# EAGLE library part DG3XX-12 (library degson)
DG350-3.5-12P DG306-5.0-12P
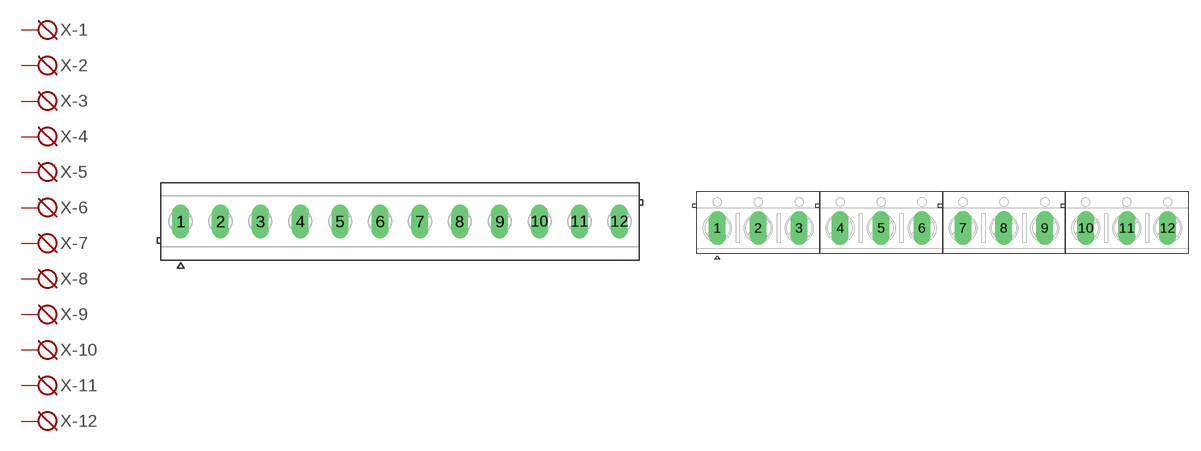
[diagram p6: symbol with the pads of DG350-3.5-12P; footprints DG350-3.5-12P, DG306-5.0-12P]

Designator prefix X; gates -1=KL -2=KL -3=KL -4=KL -5=KL -6=KL -7=KL -8=KL -9=KL -10=KL -11=KL -12=KL

## DG3XX-12-3.5  [DG350-3.5-12P]
1  -1:KL  pas
2  -2:KL  pas
3  -3:KL  pas
4  -4:KL  pas
5  -5:KL  pas
6  -6:KL  pas
7  -7:KL  pas
8  -8:KL  pas
9  -9:KL  pas
10  -10:KL  pas
11  -11:KL  pas
12  -12:KL  pas

## DG3XX-12-5.0  [DG306-5.0-12P]
Pads as for DG350-3.5-12P

## Footprint DG350-3.5-12P (pad centres in mm)
drill 1 long: 1 -19.25,0; 2 -15.75,0; 3 -12.25,0; 4 -8.75,0; 5 -5.25,0; 6 -1.75,0; 7 1.75,0; 8 5.25,0; 9 8.75,0; 10 12.25,0; 11 15.75,0; 12 19.25,0

## Footprint DG306-5.0-12P (pad centres in mm)
drill 1.4 long: 1 -27.5,0; 2 -22.5,0; 3 -17.5,0; 4 -12.5,0; 5 -7.5,0; 6 -2.5,0; 7 2.5,0; 8 7.5,0; 9 12.5,0; 10 17.5,0; 11 22.5,0; 12 27.5,0